# EAGLE library part M17X2 (library work)
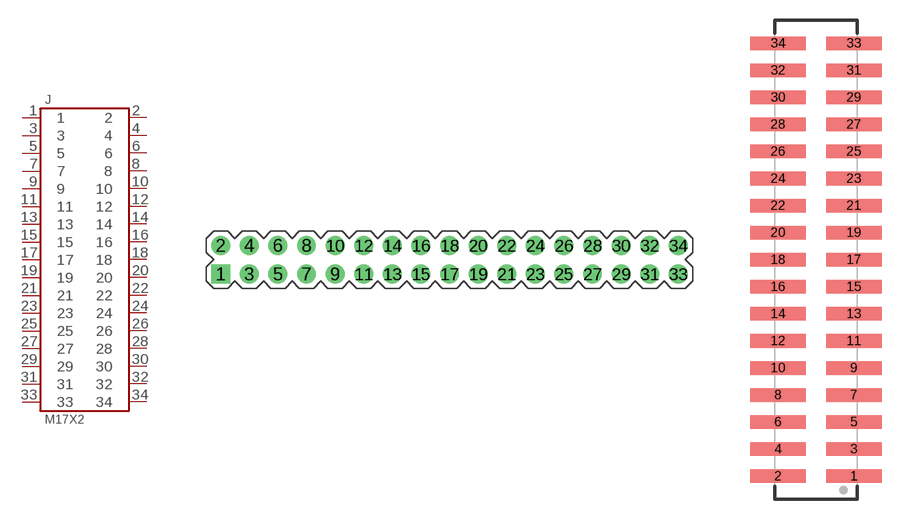
[diagram p69: symbol with the pads of M17X2; footprints M17X2, M17X2-2MM_SMD]

Designator prefix J

## M17X2  [M17X2]
1  1
2  2
3  3
4  4
5  5
6  6
7  7
8  8
9  9
10  10
11  11
12  12
13  13
14  14
15  15
16  16
17  17
18  18
19  19
20  20
21  21
22  22
23  23
24  24
25  25
26  26
27  27
28  28
29  29
30  30
31  31
32  32
33  33
34  34

## M17X2-2MM_SMD  [M17X2-2MM_SMD]
Pads as for M17X2

## Footprint M17X2 (pad centres in mm)
drill 1.016 pad 1.676 square: 1 -20.32,-1.27
drill 1.016 pad 1.676: 2 -20.32,1.27; 3 -17.78,-1.27; 4 -17.78,1.27; 5 -15.24,-1.27; 6 -15.24,1.27; 7 -12.7,-1.27; 8 -12.7,1.27; 9 -10.16,-1.27; 10 -10.16,1.27; 11 -7.62,-1.27; 12 -7.62,1.27; 13 -5.08,-1.27; 14 -5.08,1.27; 15 -2.54,-1.27; 16 -2.54,1.27; 17 0,-1.27; 18 0,1.27; 19 2.54,-1.27; 20 2.54,1.27; 21 5.08,-1.27; 22 5.08,1.27; 23 7.62,-1.27; 24 7.62,1.27; 25 10.16,-1.27; 26 10.16,1.27; 27 12.7,-1.27; 28 12.7,1.27; 29 15.24,-1.27; 30 15.24,1.27; 31 17.78,-1.27; 32 17.78,1.27; 33 20.32,-1.27; 34 20.32,1.27

## Footprint M17X2-2MM_SMD (pad centres in mm)
17X2 2MM SMD Header DigiKey: 609-2641-1-ND
smd 4.1 x 1: 1 2.8,-16; 2 -2.8,-16; 3 2.8,-14; 4 -2.8,-14; 5 2.8,-12; 6 -2.8,-12; 7 2.8,-10; 8 -2.8,-10; 9 2.8,-8; 10 -2.8,-8; 11 2.8,-6; 12 -2.8,-6; 13 2.8,-4; 14 -2.8,-4; 15 2.8,-2; 16 -2.8,-2; 17 2.8,0; 18 -2.8,0; 19 2.8,2; 20 -2.8,2; 21 2.8,4; 22 -2.8,4; 23 2.8,6; 24 -2.8,6; 25 2.8,8; 26 -2.8,8; 27 2.8,10; 28 -2.8,10; 29 2.8,12; 30 -2.8,12; 31 2.8,14; 32 -2.8,14; 33 2.8,16; 34 -2.8,16